# Altium footprint library thesis_footprint_lib.PcbLib: 64 footprints (part 4 of 4)
Each footprint in its own frame and in the unit in brackets; x right, y up, seen from the top. Pads: shape width x height; smd on the part's side, far side on the other; paste and mask are expansions set on the pad; w line width, h text height; cw(c..) or ccw(c..) is an arc to the next point about the centre after c.
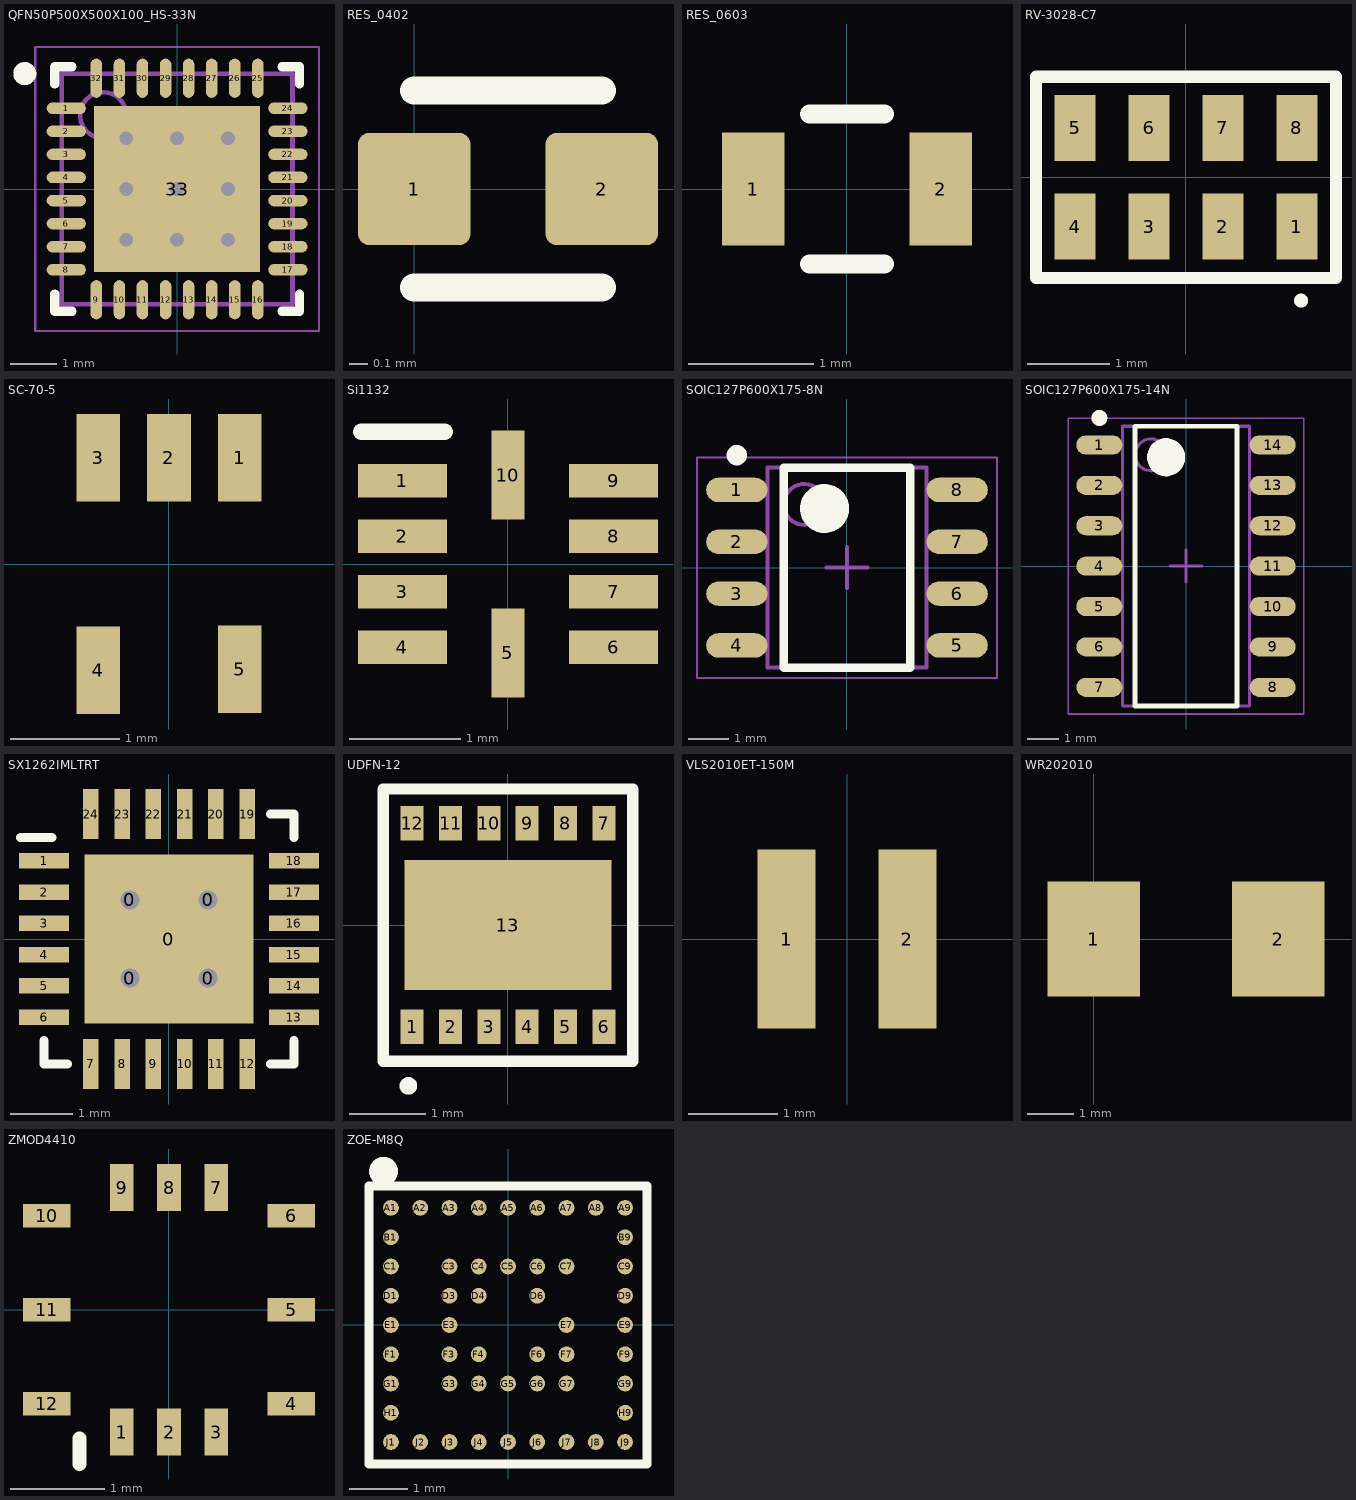
[diagram p3: the footprints below, top view; thin cyan lines are the x and y axes]

## QFN50P500X500X100_HS-33N [mm] "QFN, 32-Leads, Body 5.00x5.00mm, Pitch 0.50mm, Thermal Pad 3.60x3.60mm, IPC Medium Density"
height 1
pads (33):
  oval 0.85x0.25 smd: 1(-2.4,1.75) 2(-2.4,1.25) 3(-2.4,0.75) 4(-2.4,0.25) 5(-2.4,-0.25) 6(-2.4,-0.75) 7(-2.4,-1.25) 8(-2.4,-1.75) 17(2.4,-1.75) 18(2.4,-1.25) 19(2.4,-0.75) 20(2.4,-0.25) 21(2.4,0.25) 22(2.4,0.75) 23(2.4,1.25) 24(2.4,1.75)
  oval 0.25x0.85 smd: 9(-1.75,-2.4) 10(-1.25,-2.4) 11(-0.75,-2.4) 12(-0.25,-2.4) 13(0.25,-2.4) 14(0.75,-2.4) 15(1.25,-2.4) 16(1.75,-2.4) 25(1.75,2.4) 26(1.25,2.4) 27(0.75,2.4) 28(0.25,2.4) 29(-0.25,2.4) 30(-0.75,2.4) 31(-1.25,2.4) 32(-1.75,2.4)
  rect 3.6x3.6 smd: 33(0,0)
via 1.1,-1.1 diameter 0.6 hole 0.3
via 0,-1.1 diameter 0.6 hole 0.3
via -1.1,-1.1 diameter 0.6 hole 0.3
via 1.1,0 diameter 0.6 hole 0.3
via 0,0 diameter 0.6 hole 0.3
via -1.1,0 diameter 0.6 hole 0.3
via 1.1,1.1 diameter 0.6 hole 0.3
via 0,1.1 diameter 0.6 hole 0.3
via -1.1,1.1 diameter 0.6 hole 0.3
Top Overlay:
  circle w0.25: c-3.3,2.5 r0.125
  lines w0.2: -2.65,-2.275 -2.65,-2.65 -2.275,-2.65 ; -2.65,2.275 -2.65,2.65 -2.275,2.65 ; 2.275,-2.65 2.65,-2.65 2.65,-2.275 ; 2.275,2.65 2.65,2.65 2.65,2.275
Mechanical 13:
  circle w0.1: c-1.6,1.6 r0.5
  lines w0.1: -2.5,-2.5 2.5,-2.5 2.5,2.5 -2.5,2.5 -2.5,-2.5
Mechanical 15:
  lines w0.05: -3.075,-3.075 3.075,-3.075 3.075,3.075 -3.075,3.075 -3.075,-3.075
  lines w0.1: -0.5,0 0.5,0 ; 0,-0.5 0,0.5
3D body "QFN50P500X500X100_HS-33N.step": height 1, standoff 0, extent -2.501,-2.501 2.501,2.501

## RES_0402 [mm]
pads (2):
  rrect20% 0.6x0.6 smd mask+0.05: 1(0,0) 2(1,0)
Top Overlay:
  lines w0.15: 0,-0.525 1,-0.525 ; 0,0.525 1,0.525
3D body: height 0.35, standoff 0, extent 0.25,-0.25 0.75,0.25
3D body: height 0.35, standoff 0, extent 0,-0.25 0.25,0.25
3D body: height 0.35, standoff 0, extent 0.75,-0.25 1,0.25

## RES_0603 [mm]
pads (2):
  rect 0.5x0.9 smd mask+0: 1(-0.75,0) 2(0.75,0)
Top Overlay:
  lines w0.15: -0.3,-0.6 0.3,-0.6 ; -0.3,0.6 0.3,0.6
3D body: height 0.4, standoff 0, extent -0.5,-0.4 0.5,0.4
3D body: height 0.4, standoff 0, extent -0.8,-0.4 -0.5,0.4
3D body: height 0.4, standoff 0, extent 0.5,-0.4 0.8,0.4

## RV-3028-C7 [mm] "Extreme Low Power RTC module"
pads (8):
  rect 0.5x0.8 smd paste-0.016 mask+0.05: 1(1.35,-0.6) 2(0.45,-0.6) 3(-0.45,-0.6) 4(-1.35,-0.6) 5(-1.35,0.6) 6(-0.45,0.6) 7(0.45,0.6) 8(1.35,0.6)
Top Overlay:
  circle w0.15: c1.4,-1.5 r0.01
  lines w0.15: -1.825,-1.225 1.825,-1.225 1.825,1.225 -1.825,1.225 -1.825,-1.225
3D body: height 0.8, standoff 0, extent -1.6,-0.75 1.6,0.75

## RX_COIL_MISC [mm]
3D body: height 0.88, standoff 0, extent -10,-10 10,10

## SAMD10-14-SOIC [mm]

## SC-70-5 [mm]
pads (5):
  rect 0.4x0.8 smd mask+0: 1(0.65,0.975) 2(0,0.975) 3(-0.65,0.975) 4(-0.65,-0.975) 5(0.65,-0.965)
3D body: height 1, standoff 0, extent -1.05,-0.6 1.05,0.6
3D body: height 0.1, standoff 0, extent -0.75,-1.1 -0.55,1.1
3D body: height 0.1, standoff 0, extent 0.55,-1.1 0.75,1.1
3D body: height 0.1, standoff 0, extent -0.1,0.3 0.1,1.1

## Si1132 [mm]
pads (10):
  rect 0.8x0.3 smd paste-0.023 mask+0.05: 1(-0.95,0.75) 2(-0.95,0.25) 3(-0.95,-0.25) 4(-0.95,-0.75) 6(0.95,-0.75) 7(0.95,-0.25) 8(0.95,0.25) 9(0.95,0.75)
  rect 0.3x0.8 smd paste-0.023 mask+0.05: 5(0,-0.8) 10(0,0.8)
Top Overlay:
  lines w0.15: -1.32,1.19 -0.57,1.19
3D body: height 0.65, standoff 0, extent -1,-1 1,1

## SOIC127P600X175-8N [mm] "SOIC, 8-Leads, Body 4.90x3.90mm, Pitch 1.27mm, IPC Medium Density"
height 1.75
pads (8):
  oval 1.5x0.6 smd: 1(-2.7,1.905) 2(-2.7,0.635) 3(-2.7,-0.635) 4(-2.7,-1.905) 5(2.7,-1.905) 6(2.7,-0.635) 7(2.7,0.635) 8(2.7,1.905)
Top Overlay:
  circle w0.6: c-0.55,1.45 r0.3
  circle w0.25: c-2.7,2.755 r0.125
  lines w0.2: -1.55,-2.45 1.55,-2.45 1.55,2.45 -1.55,2.45 -1.55,-2.45
Mechanical 13:
  circle w0.1: c-1.05,1.55 r0.5
  lines w0.1: -1.95,-2.45 1.95,-2.45 1.95,2.45 -1.95,2.45 -1.95,-2.45
Mechanical 15:
  lines w0.05: -3.675,-2.7 3.675,-2.7 3.675,2.7 -3.675,2.7 -3.675,-2.7
  lines w0.1: -0.5,0 0.5,0 ; 0,-0.5 0,0.5
3D body "SOIC127P600X175-8N.step": height 1.75, standoff 0, extent -3,-2.45 3,2.45

## SOIC127P600X175-14N [mm] "SOIC, 14-Leads, Body 8.65x3.90mm, Pitch 1.27mm, IPC Medium Density"
height 1.75
pads (14):
  oval 1.45x0.6 smd: 1(-2.725,3.81) 2(-2.725,2.54) 3(-2.725,1.27) 4(-2.725,0) 5(-2.725,-1.27) 6(-2.725,-2.54) 7(-2.725,-3.81) 8(2.725,-3.81) 9(2.725,-2.54) 10(2.725,-1.27) 11(2.725,0) 12(2.725,1.27) 13(2.725,2.54) 14(2.725,3.81)
Top Overlay:
  circle w0.6: c-0.625,3.425 r0.3
  circle w0.25: c-2.725,4.66 r0.125
  lines w0.15: -1.6,-4.4 1.6,-4.4 1.6,4.4 -1.6,4.4 -1.6,-4.4
Mechanical 13:
  circle w0.1: c-1.1,3.5 r0.5
  lines w0.1: -2,-4.4 2,-4.4 2,4.4 -2,4.4 -2,-4.4
Mechanical 15:
  lines w0.05: -3.7,-4.65 3.7,-4.65 3.7,4.65 -3.7,4.65 -3.7,-4.65
  lines w0.1: -0.5,0 0.5,0 ; 0,-0.5 0,0.5
3D body "SOIC127P600X175-14N.step": height 1.75, standoff 0, extent -3,-4.4 3,4.4

## SX1262IMLTRT [mm] "Semtech LoRa Transceiver"
height 0.9
pads (29):
  round 0.6 hole 0.3 paste-0.015 mask+0.05: 0(-0.625,-0.625) 0(-0.625,0.625) 0(0.625,-0.625) 0(0.625,0.625)
  rect 2.7x2.7 smd paste-2539.97 mask+0.05: 0(0,0)
  rect 0.8x0.25 smd paste-0.02 mask+0.05: 1(-2,1.25) 2(-2,0.75) 3(-2,0.25) 4(-2,-0.25) 5(-2,-0.75) 6(-2,-1.25) 13(2,-1.25) 14(2,-0.75) 15(2,-0.25) 16(2,0.25) 17(2,0.75) 18(2,1.25)
  rect 0.25x0.8 smd paste-0.02 mask+0.05: 7(-1.25,-2) 8(-0.75,-2) 9(-0.25,-2) 10(0.25,-2) 11(0.75,-2) 12(1.25,-2) 19(1.25,2) 20(0.75,2) 21(0.25,2) 22(-0.25,2) 23(-0.75,2) 24(-1.25,2)
Top Overlay:
  lines w0.15: -2.375,1.625 -1.875,1.625 ; -2,-1.625 -2,-2 -1.625,-2 ; 1.625,-2 2,-2 2,-1.625 ; 1.625,2 2,2 2,1.625
Top Paste:
  region: -1.175,1.175 -0.125,1.175 -0.125,0.125 -1.175,0.125
  region: 0.125,1.175 1.175,1.175 1.175,0.125 0.125,0.125
  region: 0.125,-0.125 1.175,-0.125 1.175,-1.175 0.125,-1.175
  region: -1.175,-0.125 -0.125,-0.125 -0.125,-1.175 -1.175,-1.175
3D body: height 0.9, standoff 0, extent -2,-2 2,2

## UDFN-12 [mm] "UDFN-12 package for RP604x"
pads (13):
  rect 0.3x0.45 smd paste-0.019 mask+0.05: 1(-1.25,-1.325) 2(-0.75,-1.325) 3(-0.25,-1.325) 4(0.25,-1.325) 5(0.75,-1.325) 6(1.25,-1.325) 7(1.25,1.325) 8(0.75,1.325) 9(0.25,1.325) 10(-0.25,1.325) 11(-0.75,1.325) 12(-1.25,1.325)
  rect 2.7x1.7 smd paste-2539.97 mask+0.05: 13(0,0)
Top Overlay:
  circle w0.15: c-1.3,-2.1 r0.04
  lines w0.15: -1.625,-1.775 1.625,-1.775 1.625,1.775 -1.625,1.775 -1.625,-1.775
Top Paste:
  region: -1.2,0.7 -0.1,0.7 -0.1,0.075 -1.2,0.075
  region: -1.2,-0.075 -0.1,-0.075 -0.1,-0.7 -1.2,-0.7
  region: 0.1,0.7 1.2,0.7 1.2,0.075 0.1,0.075
  region: 0.1,-0.075 1.2,-0.075 1.2,-0.7 0.1,-0.7
3D body: height 0.58, standoff 0, extent -1.5,-1.35 1.5,1.35

## VLS2010ET-150M [mm] "Inductor"
pads (2):
  rect 0.65x2 smd mask+0.05: 1(-0.675,0) 2(0.675,0)
3D body: height 1, standoff 0, extent -1,-1 1,1

## WR202010 [mm]
pads (2):
  rect 2x2.5 smd mask+0: 1(0,0) 2(4,0)

## ZMOD4410 [mm]
pads (12):
  rect 0.25x0.5 smd mask+0.05: 1(-0.5,-1.3) 2(0,-1.3) 3(0.5,-1.3) 7(0.5,1.3) 8(0,1.3) 9(-0.5,1.3)
  rect 0.5x0.25 smd mask+0.05: 4(1.3,-1) 5(1.3,0) 6(1.3,1) 10(-1.3,1) 11(-1.3,0) 12(-1.3,-1)
Top Overlay:
  lines w0.15: -0.95,-1.64 -0.95,-1.37
3D body: height 0.77, standoff 0, extent -1.5,-1.5 1.5,1.5

## ZOE-M8Q [mm] "ublox GNSS receiver"
height 1
pads (51):
  round 0.27 smd paste-2539.97 mask+0.05: A1(-2,2) A2(-1.5,2) A3(-1,2) A4(-0.5,2) A5(0,2) A6(0.5,2) A7(1,2) A8(1.5,2) A9(2,2) B1(-2,1.5) B9(2,1.5) C1(-2,1) C3(-1,1) C4(-0.5,1) C5(0,1) C6(0.5,1) C7(1,1) C9(2,1) D1(-2,0.5) D3(-1,0.5) D4(-0.5,0.5) D6(0.5,0.5) D9(2,0.5) E1(-2,0) E3(-1,0) E7(1,0) E9(2,0) F1(-2,-0.5) F3(-1,-0.5) F4(-0.5,-0.5) F6(0.5,-0.5) F7(1,-0.5) F9(2,-0.5) G1(-2,-1) G3(-1,-1) G4(-0.5,-1) G5(0,-1) G6(0.5,-1) G7(1,-1) G9(2,-1) H1(-2,-1.5) H9(2,-1.5) J1(-2,-2) J2(-1.5,-2) J3(-1,-2) J4(-0.5,-2) J5(0,-2) J6(0.5,-2) J7(1,-2) J8(1.5,-2) J9(2,-2)
Top Overlay:
  circle w0.245: c-2.125,2.625 r0.125
  lines w0.15: -2.375,-2.375 2.375,-2.375 2.375,2.375 -2.375,2.375 -2.375,-2.375
Top Paste:
  drawing of 51 lines, arcs and shapes, not listed
3D body: height 0.9, standoff 0, extent -2.25,-2.25 2.25,2.25